# Altium integrated library Linear Technology Power Management Battery Management.IntLib: 626 symbols (part 28 of 56)
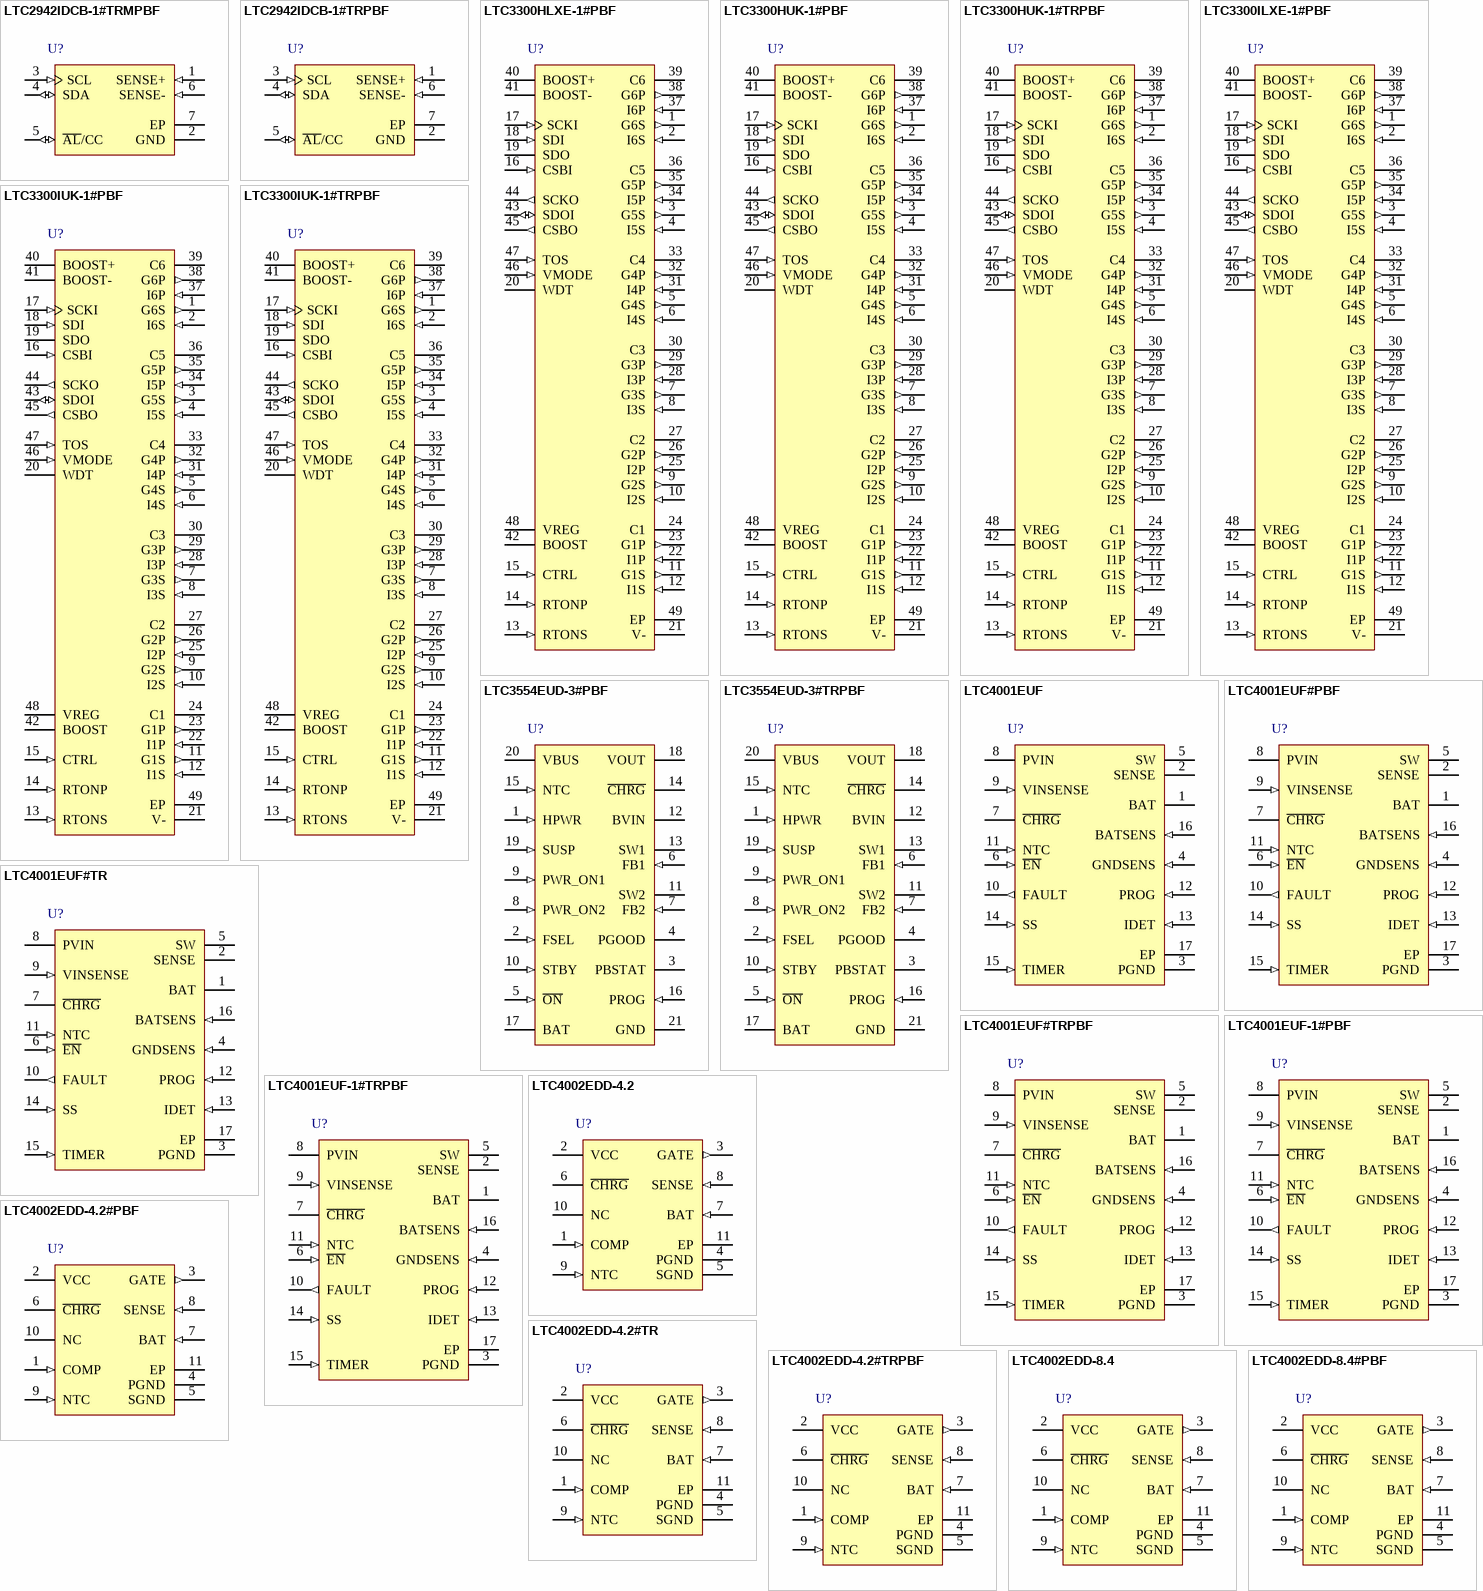
[diagram p49: symbols LTC2942IDCB-1#TRMPBF to LTC4002EDD-8.4#PBF]

## LTC3300IUK-1#PBF
designator U?
High Efficiency Bidirectional Multicell Battery Balancer, 48-pin QFN (UK-48), -40 to 125 degC, Pb-Free; Manufacturer: Linear Technology; PartNumber: LTC3300IUK-1#PBF; Battery Chemistry: Li-Ion, LiFePO4; Number of Cells: > 1000 V of stacked Li-Ion cells; DatasheetVersion: Rev. A; PackageVersion: Rev. C, 06/2010; PackageReference: UK-48; PackageDescription: 48-Pin Plastic QFN, Body 7 x 7 mm, Pitch 0.5 mm; Supplier 1: Digi-Key; Supplier Part Number 1: LTC3300IUK-1#PBF-ND; Supplier 2: Farnell; Supplier Part Number 2: 2313445; Supplier 3: Newark; Supplier Part Number 3: 71W8464; RoHS: TRUE; Mounting Technology: Surface Mount; Code_JEDEC: MO-220; ComponentLink1Description: Manufacturer URL; ComponentLink1URL: http://www.linear.com/; ComponentLink2Description: Datasheet; ComponentLink2URL: http://cds.linear.com/docs/en/datasheet/33001fa.pdf; ComponentLink3Description: Package Specification; ComponentLink3URL: http://cds.linear.com/docs/en/packaging/QFN_48_05-08-1704.pdf
footprint LT-UK-48_N (QFN, 48-Leads, Body 7.1x7.1mm, Pitch 0.5mm, Thermal Pad 5.15x5.15mm, IPC Medium Density)
footprint LT-UK-48_L (QFN, 48-Leads, Body 7.1x7.1mm, Pitch 0.5mm, Thermal Pad 5.15x5.15mm, IPC High Density)
footprint LT-UK-48_M (QFN, 48-Leads, Body 7.1x7.1mm, Pitch 0.5mm, Thermal Pad 5.15x5.15mm, IPC Low Density)
pins: 1 G6S (out) "G1S through G6S are gate driver outputs for driving external NMOS transistors connected in series with the secondary windings of transformers whose primaries are connected in parallel with battery cells 1 through 6. For the (See Datasheet)", 2 I6S (in) "I1S through I6S are current sense inputs for measuring secondary winding current in transformers whose primaries are connected in parallel with battery cells 1 through 6. For the minimum part count balancing application (See Datasheet)", 3 G5S (out) "G1S through G6S are gate driver outputs for driving external NMOS transistors connected in series with the secondary windings of transformers whose primaries are connected in parallel with battery cells 1 through 6. For the (See Datasheet)", 4 I5S (in) "I1S through I6S are current sense inputs for measuring secondary winding current in transformers whose primaries are connected in parallel with battery cells 1 through 6. For the minimum part count balancing application (See Datasheet)", 5 G4S (out) "G1S through G6S are gate driver outputs for driving external NMOS transistors connected in series with the secondary windings of transformers whose primaries are connected in parallel with battery cells 1 through 6. For the (See Datasheet)", 6 I4S (in) "I1S through I6S are current sense inputs for measuring secondary winding current in transformers whose primaries are connected in parallel with battery cells 1 through 6. For the minimum part count balancing application (See Datasheet)", 7 G3S (out) "G1S through G6S are gate driver outputs for driving external NMOS transistors connected in series with the secondary windings of transformers whose primaries are connected in parallel with battery cells 1 through 6. For the (See Datasheet)", 8 I3S (in) "I1S through I6S are current sense inputs for measuring secondary winding current in transformers whose primaries are connected in parallel with battery cells 1 through 6. For the minimum part count balancing application (See Datasheet)", 9 G2S (out) "G1S through G6S are gate driver outputs for driving external NMOS transistors connected in series with the secondary windings of transformers whose primaries are connected in parallel with battery cells 1 through 6. For the (See Datasheet)", 10 I2S (in) "I1S through I6S are current sense inputs for measuring secondary winding current in transformers whose primaries are connected in parallel with battery cells 1 through 6. For the minimum part count balancing application (See Datasheet)", 11 G1S (out) "G1S through G6S are gate driver outputs for driving external NMOS transistors connected in series with the secondary windings of transformers whose primaries are connected in parallel with battery cells 1 through 6. For the (See Datasheet)", 12 I1S (in) "I1S through I6S are current sense inputs for measuring secondary winding current in transformers whose primaries are connected in parallel with battery cells 1 through 6. For the minimum part count balancing application (See Datasheet)", 13 RTONS (in) "Secondary Winding Max tON Setting Resistor. The RTONS pin servos to 1.2V. A resistor to V- programs the maximum on-time for all external NMOS transistors connected in series with secondary windings. This protects against a (See Datasheet)", 14 RTONP (in) "Primary Winding Max tON Setting Resistor. The RTONP pin servos to 1.2V. A resistor to V- programs the maximum on-time for all external NMOS transistors connected in series with primary windings. This protects against a (See Datasheet)", 15 CTRL (in) "Control Input. The CTRL pin configures the LTC3300-1 for the minimum part count application employing a single transformer if CTRL is tied to VREG or for the multiple transformer application if CTRL is tied to V-. This pin (See Datasheet)", 16 CSBI (in) "Chip Select (Active Low) Input. The CSBI pin interfaces to a rail-to-rail output logic gate if VMODE is tied to VREG. CSBI must be driven by the CSBO pin of another LTC3300-1 if VMODE is tied to V-. See Serial Port in the (See Datasheet)", 17 SCKI (in) "Serial Clock Input. The SCKI pin interfaces to a rail-to-rail output logic gate if VMODE is tied to VREG. SCKI must be driven by the SCKO pin of another LTC3300-1 if VMODE is tied to V-. See Serial Port in the Applications (See Datasheet)", 18 SDI (in) "Serial Data Input. When writing data to the LTC3300-1, the SDI pin interfaces to a rail-to-rail output logic gate if VMODE is tied to VREG or must be driven by the SDOI pin of another LTC3300-1 if VMODE is tied to V-. See (See Datasheet)", 19 SDO (oc) "Serial Data Output. When reading data from the LTC3300-1, the SDO pin is an NMOS open-drain output if VMODE is tied to VREG. The SDO pin is not used if VMODE is tied to V-. See Serial Port in the Applications Information (See Datasheet)", 20 WDT (hiz) "Watchdog Timer Output (Active High). At initial power-up and when not attempting to execute a valid balance command, the WDT pin is high impedance and will be pulled high (internally clamped to ~5.6V) if an external pull-up (See Datasheet)", 21 V- (power) "Connect V- to the most negative potential in the series of cells.", 22 I1P (in) "I1P through I6P are current sense inputs for measuring primary winding current in transformers connected in parallel with battery cells 1 through 6.", 23 G1P (out) "G1P through G6P are gate driver outputs for driving external NMOS transistors connected in series with the primary windings of transformers connected in parallel with battery cells 1 through 6.", 24 C1 "C1 through C6 connect to the positive terminals of battery cells 1 through 6. Connect the negative terminal of battery cell 1 to V-.", 25 I2P (in) "I1P through I6P are current sense inputs for measuring primary winding current in transformers connected in parallel with battery cells 1 through 6.", 26 G2P (out) "G1P through G6P are gate driver outputs for driving external NMOS transistors connected in series with the primary windings of transformers connected in parallel with battery cells 1 through 6.", 27 C2 "C1 through C6 connect to the positive terminals of battery cells 1 through 6. Connect the negative terminal of battery cell 1 to V-.", 28 I3P (in) "I1P through I6P are current sense inputs for measuring primary winding current in transformers connected in parallel with battery cells 1 through 6.", 29 G3P (out) "G1P through G6P are gate driver outputs for driving external NMOS transistors connected in series with the primary windings of transformers connected in parallel with battery cells 1 through 6.", 30 C3 "C1 through C6 connect to the positive terminals of battery cells 1 through 6. Connect the negative terminal of battery cell 1 to V-.", 31 I4P (in) "I1P through I6P are current sense inputs for measuring primary winding current in transformers connected in parallel with battery cells 1 through 6.", 32 G4P (out) "G1P through G6P are gate driver outputs for driving external NMOS transistors connected in series with the primary windings of transformers connected in parallel with battery cells 1 through 6.", 33 C4 "C1 through C6 connect to the positive terminals of battery cells 1 through 6. Connect the negative terminal of battery cell 1 to V-.", 34 I5P (in) "I1P through I6P are current sense inputs for measuring primary winding current in transformers connected in parallel with battery cells 1 through 6.", 35 G5P (out) "G1P through G6P are gate driver outputs for driving external NMOS transistors connected in series with the primary windings of transformers connected in parallel with battery cells 1 through 6.", 36 C5 "C1 through C6 connect to the positive terminals of battery cells 1 through 6. Connect the negative terminal of battery cell 1 to V-.", 37 I6P (in) "I1P through I6P are current sense inputs for measuring primary winding current in transformers connected in parallel with battery cells 1 through 6.", 38 G6P (out) "G1P through G6P are gate driver outputs for driving external NMOS transistors connected in series with the primary windings of transformers connected in parallel with battery cells 1 through 6.", 39 C6 "C1 through C6 connect to the positive terminals of battery cells 1 through 6. Connect the negative terminal of battery cell 1 to V-.", 40 BOOST+ "Boost+ Pin. Connects to the anode of the external flying capacitor used for generating sufficient gate drive necessary for balancing the topmost battery cell in a given LTC3300-1 sub-stack. A Schottky diode from C6 to BOOST+ (See Datasheet)", 41 BOOST- "Boost- Pin. Connects to the cathode of the external flying capacitor used for generating sufficient gate drive necessary for balancing the topmost battery cell in a given LTC3300-1 sub-stack. Alternately, if the BOOST+ pin (See Datasheet)", 42 BOOST "Enable Boost Pin. Connect BOOST to VREG to enable the boosted gate drive needed for balancing the top cell in a given LTC3300-1 sub-stack. If the BOOST+ pin can be connected to the next cell up in the stack (i.e., C1 of the (See Datasheet)", 43 SDOI (io) "Serial Data Output/Input. SDOI transfers data to and from the next IC higher in the daisy chain when writing and reading. See Serial Port in the Applications Information section.", 44 SCKO (out) "Serial Clock Output. SCKO is a buffered and one-shotted version of the serial clock input, SCKI, when CSBI is low. SCKO drives the next IC higher in the daisy chain. See Serial Port in the Applications Information section.", 45 CSBO (out) "Chip Select (Active Low) Output. CSBO is a buffered version of the chip select input, CSBI. CSBO drives the next IC higher in the daisy chain. See Serial Port in the Applications Information section.", 46 VMODE (in) "Voltage Mode Input. When VMODE is tied to VREG, the CSBI, SCKI, SDI and SDO pins are configured as voltage inputs and outputs. This means these pins accept VREG-referred rail-to-rail logic levels. Connect VMODE to VREG when (See Datasheet)", 47 TOS (in) "Top Of Stack Input. Tie TOS to VREG when the LTC3300-1 is the top device in a daisy chain. Tie TOS to V- when the LTC3300-1 is any other device in the daisy chain. When TOS is tied to VREG, the LTC3300-1 ignores the SDOI (See Datasheet)", 48 VREG (power) "Linear Voltage Regulator Output. This 4.8V output should be bypassed with a 1uF or larger capacitor to V-. The VREG pin is capable of supplying up to 40mA to internal and external loads. The VREG pin does not sink current.", 49 EP (power) "The exposed pad should be connected to a continuous (ground) plane biased at V- on the second layer of the printed circuit board by several vias directly under the LTC3300-1."

## LTC3300IUK-1#TRPBF
designator U?
High Efficiency Bidirectional Multicell Battery Balancer, 48-pin QFN (UK-48), -40 to 125 degC, Pb-Free, Tape and Reel; Manufacturer: Linear Technology; PartNumber: LTC3300IUK-1#TRPBF; Battery Chemistry: Li-Ion, LiFePO4; Number of Cells: > 1000 V of stacked Li-Ion cells; DatasheetVersion: Rev. A; PackageVersion: Rev. C, 06/2010; PackageReference: UK-48; PackageDescription: 48-Pin Plastic QFN, Body 7 x 7 mm, Pitch 0.5 mm; Supplier 1: Digi-Key; Supplier Part Number 1: LTC3300IUK-1#TRPBF-ND; Supplier 2: Newark; Supplier Part Number 2: 71W8465; Packing: Tape and Reel; RoHS: TRUE; Mounting Technology: Surface Mount; Code_JEDEC: MO-220; ComponentLink1Description: Manufacturer URL; ComponentLink1URL: http://www.linear.com/; ComponentLink2Description: Datasheet; ComponentLink2URL: http://cds.linear.com/docs/en/datasheet/33001fa.pdf; ComponentLink3Description: Package Specification; ComponentLink3URL: http://cds.linear.com/docs/en/packaging/QFN_48_05-08-1704.pdf
footprint LT-UK-48_N (QFN, 48-Leads, Body 7.1x7.1mm, Pitch 0.5mm, Thermal Pad 5.15x5.15mm, IPC Medium Density)
footprint LT-UK-48_L (QFN, 48-Leads, Body 7.1x7.1mm, Pitch 0.5mm, Thermal Pad 5.15x5.15mm, IPC High Density)
footprint LT-UK-48_M (QFN, 48-Leads, Body 7.1x7.1mm, Pitch 0.5mm, Thermal Pad 5.15x5.15mm, IPC Low Density)
pins: 1 G6S (out) "G1S through G6S are gate driver outputs for driving external NMOS transistors connected in series with the secondary windings of transformers whose primaries are connected in parallel with battery cells 1 through 6. For the (See Datasheet)", 2 I6S (in) "I1S through I6S are current sense inputs for measuring secondary winding current in transformers whose primaries are connected in parallel with battery cells 1 through 6. For the minimum part count balancing application (See Datasheet)", 3 G5S (out) "G1S through G6S are gate driver outputs for driving external NMOS transistors connected in series with the secondary windings of transformers whose primaries are connected in parallel with battery cells 1 through 6. For the (See Datasheet)", 4 I5S (in) "I1S through I6S are current sense inputs for measuring secondary winding current in transformers whose primaries are connected in parallel with battery cells 1 through 6. For the minimum part count balancing application (See Datasheet)", 5 G4S (out) "G1S through G6S are gate driver outputs for driving external NMOS transistors connected in series with the secondary windings of transformers whose primaries are connected in parallel with battery cells 1 through 6. For the (See Datasheet)", 6 I4S (in) "I1S through I6S are current sense inputs for measuring secondary winding current in transformers whose primaries are connected in parallel with battery cells 1 through 6. For the minimum part count balancing application (See Datasheet)", 7 G3S (out) "G1S through G6S are gate driver outputs for driving external NMOS transistors connected in series with the secondary windings of transformers whose primaries are connected in parallel with battery cells 1 through 6. For the (See Datasheet)", 8 I3S (in) "I1S through I6S are current sense inputs for measuring secondary winding current in transformers whose primaries are connected in parallel with battery cells 1 through 6. For the minimum part count balancing application (See Datasheet)", 9 G2S (out) "G1S through G6S are gate driver outputs for driving external NMOS transistors connected in series with the secondary windings of transformers whose primaries are connected in parallel with battery cells 1 through 6. For the (See Datasheet)", 10 I2S (in) "I1S through I6S are current sense inputs for measuring secondary winding current in transformers whose primaries are connected in parallel with battery cells 1 through 6. For the minimum part count balancing application (See Datasheet)", 11 G1S (out) "G1S through G6S are gate driver outputs for driving external NMOS transistors connected in series with the secondary windings of transformers whose primaries are connected in parallel with battery cells 1 through 6. For the (See Datasheet)", 12 I1S (in) "I1S through I6S are current sense inputs for measuring secondary winding current in transformers whose primaries are connected in parallel with battery cells 1 through 6. For the minimum part count balancing application (See Datasheet)", 13 RTONS (in) "Secondary Winding Max tON Setting Resistor. The RTONS pin servos to 1.2V. A resistor to V- programs the maximum on-time for all external NMOS transistors connected in series with secondary windings. This protects against a (See Datasheet)", 14 RTONP (in) "Primary Winding Max tON Setting Resistor. The RTONP pin servos to 1.2V. A resistor to V- programs the maximum on-time for all external NMOS transistors connected in series with primary windings. This protects against a (See Datasheet)", 15 CTRL (in) "Control Input. The CTRL pin configures the LTC3300-1 for the minimum part count application employing a single transformer if CTRL is tied to VREG or for the multiple transformer application if CTRL is tied to V-. This pin (See Datasheet)", 16 CSBI (in) "Chip Select (Active Low) Input. The CSBI pin interfaces to a rail-to-rail output logic gate if VMODE is tied to VREG. CSBI must be driven by the CSBO pin of another LTC3300-1 if VMODE is tied to V-. See Serial Port in the (See Datasheet)", 17 SCKI (in) "Serial Clock Input. The SCKI pin interfaces to a rail-to-rail output logic gate if VMODE is tied to VREG. SCKI must be driven by the SCKO pin of another LTC3300-1 if VMODE is tied to V-. See Serial Port in the Applications (See Datasheet)", 18 SDI (in) "Serial Data Input. When writing data to the LTC3300-1, the SDI pin interfaces to a rail-to-rail output logic gate if VMODE is tied to VREG or must be driven by the SDOI pin of another LTC3300-1 if VMODE is tied to V-. See (See Datasheet)", 19 SDO (oc) "Serial Data Output. When reading data from the LTC3300-1, the SDO pin is an NMOS open-drain output if VMODE is tied to VREG. The SDO pin is not used if VMODE is tied to V-. See Serial Port in the Applications Information (See Datasheet)", 20 WDT (hiz) "Watchdog Timer Output (Active High). At initial power-up and when not attempting to execute a valid balance command, the WDT pin is high impedance and will be pulled high (internally clamped to ~5.6V) if an external pull-up (See Datasheet)", 21 V- (power) "Connect V- to the most negative potential in the series of cells.", 22 I1P (in) "I1P through I6P are current sense inputs for measuring primary winding current in transformers connected in parallel with battery cells 1 through 6.", 23 G1P (out) "G1P through G6P are gate driver outputs for driving external NMOS transistors connected in series with the primary windings of transformers connected in parallel with battery cells 1 through 6.", 24 C1 "C1 through C6 connect to the positive terminals of battery cells 1 through 6. Connect the negative terminal of battery cell 1 to V-.", 25 I2P (in) "I1P through I6P are current sense inputs for measuring primary winding current in transformers connected in parallel with battery cells 1 through 6.", 26 G2P (out) "G1P through G6P are gate driver outputs for driving external NMOS transistors connected in series with the primary windings of transformers connected in parallel with battery cells 1 through 6.", 27 C2 "C1 through C6 connect to the positive terminals of battery cells 1 through 6. Connect the negative terminal of battery cell 1 to V-.", 28 I3P (in) "I1P through I6P are current sense inputs for measuring primary winding current in transformers connected in parallel with battery cells 1 through 6.", 29 G3P (out) "G1P through G6P are gate driver outputs for driving external NMOS transistors connected in series with the primary windings of transformers connected in parallel with battery cells 1 through 6.", 30 C3 "C1 through C6 connect to the positive terminals of battery cells 1 through 6. Connect the negative terminal of battery cell 1 to V-.", 31 I4P (in) "I1P through I6P are current sense inputs for measuring primary winding current in transformers connected in parallel with battery cells 1 through 6.", 32 G4P (out) "G1P through G6P are gate driver outputs for driving external NMOS transistors connected in series with the primary windings of transformers connected in parallel with battery cells 1 through 6.", 33 C4 "C1 through C6 connect to the positive terminals of battery cells 1 through 6. Connect the negative terminal of battery cell 1 to V-.", 34 I5P (in) "I1P through I6P are current sense inputs for measuring primary winding current in transformers connected in parallel with battery cells 1 through 6.", 35 G5P (out) "G1P through G6P are gate driver outputs for driving external NMOS transistors connected in series with the primary windings of transformers connected in parallel with battery cells 1 through 6.", 36 C5 "C1 through C6 connect to the positive terminals of battery cells 1 through 6. Connect the negative terminal of battery cell 1 to V-.", 37 I6P (in) "I1P through I6P are current sense inputs for measuring primary winding current in transformers connected in parallel with battery cells 1 through 6.", 38 G6P (out) "G1P through G6P are gate driver outputs for driving external NMOS transistors connected in series with the primary windings of transformers connected in parallel with battery cells 1 through 6.", 39 C6 "C1 through C6 connect to the positive terminals of battery cells 1 through 6. Connect the negative terminal of battery cell 1 to V-.", 40 BOOST+ "Boost+ Pin. Connects to the anode of the external flying capacitor used for generating sufficient gate drive necessary for balancing the topmost battery cell in a given LTC3300-1 sub-stack. A Schottky diode from C6 to BOOST+ (See Datasheet)", 41 BOOST- "Boost- Pin. Connects to the cathode of the external flying capacitor used for generating sufficient gate drive necessary for balancing the topmost battery cell in a given LTC3300-1 sub-stack. Alternately, if the BOOST+ pin (See Datasheet)", 42 BOOST "Enable Boost Pin. Connect BOOST to VREG to enable the boosted gate drive needed for balancing the top cell in a given LTC3300-1 sub-stack. If the BOOST+ pin can be connected to the next cell up in the stack (i.e., C1 of the (See Datasheet)", 43 SDOI (io) "Serial Data Output/Input. SDOI transfers data to and from the next IC higher in the daisy chain when writing and reading. See Serial Port in the Applications Information section.", 44 SCKO (out) "Serial Clock Output. SCKO is a buffered and one-shotted version of the serial clock input, SCKI, when CSBI is low. SCKO drives the next IC higher in the daisy chain. See Serial Port in the Applications Information section.", 45 CSBO (out) "Chip Select (Active Low) Output. CSBO is a buffered version of the chip select input, CSBI. CSBO drives the next IC higher in the daisy chain. See Serial Port in the Applications Information section.", 46 VMODE (in) "Voltage Mode Input. When VMODE is tied to VREG, the CSBI, SCKI, SDI and SDO pins are configured as voltage inputs and outputs. This means these pins accept VREG-referred rail-to-rail logic levels. Connect VMODE to VREG when (See Datasheet)", 47 TOS (in) "Top Of Stack Input. Tie TOS to VREG when the LTC3300-1 is the top device in a daisy chain. Tie TOS to V- when the LTC3300-1 is any other device in the daisy chain. When TOS is tied to VREG, the LTC3300-1 ignores the SDOI (See Datasheet)", 48 VREG (power) "Linear Voltage Regulator Output. This 4.8V output should be bypassed with a 1uF or larger capacitor to V-. The VREG pin is capable of supplying up to 40mA to internal and external loads. The VREG pin does not sink current.", 49 EP (power) "The exposed pad should be connected to a continuous (ground) plane biased at V- on the second layer of the printed circuit board by several vias directly under the LTC3300-1."

## LTC3554EUD-3#PBF
designator U?
Micropower USB Power Manager with Li-Ion Charger and Two Step-Down Regulators, 4.35 to 5.5 V Vin, 20-pin QFN (UD-20), -40 to 85 degC, Pb-Free; Manufacturer: Linear Technology; PartNumber: LTC3554EUD-3#PBF; Battery Chemistry: Li-Ion, Li-Polymer; Buck: 200 mA, 200 mA; Float Voltage: 4.2 V; Max Charge Current(A): 0.4; Number of Cells: 1; Type of Charger: Linear; Vin Max(V): 5.5; Vin Min(V): 4.35; DatasheetVersion: Rev. E; PackageVersion: Rev. A, 06/2010; PackageReference: UD-20; PackageDescription: 20-Pin Plastic QFN, Body 3 x 3 mm, Pitch 0.4 mm; Supplier 1: Digi-Key; Supplier Part Number 1: LTC3554EUD-3#PBF-ND; Supplier 2: Newark; Supplier Part Number 2: 44W6805; RoHS: TRUE; Mounting Technology: Surface Mount; ComponentLink1Description: Manufacturer URL; ComponentLink1URL: http://www.linear.com/; ComponentLink2Description: Datasheet; ComponentLink2URL: http://cds.linear.com/docs/en/datasheet/355412fe.pdf; ComponentLink3Description: Package Specification; ComponentLink3URL: http://cds.linear.com/docs/en/packaging/QFN_20_05-08-1720.pdf
footprint LT-UD-20_N (QFN, 20-Leads, Body 3.1x3.1mm, Pitch 0.4mm, Thermal Pad 1.65x1.65mm, IPC Medium Density)
footprint LT-UD-20_L (QFN, 20-Leads, Body 3.1x3.1mm, Pitch 0.4mm, Thermal Pad 1.65x1.65mm, IPC High Density)
footprint LT-UD-20_M (QFN, 20-Leads, Body 3.1x3.1mm, Pitch 0.4mm, Thermal Pad 1.65x1.65mm, IPC Low Density)
pins: 1 HPWR (in) "High Power Logic Input. When this pin is low the input current limit is set to 100mA and when this pin is driven high it is set to 500mA. The SUSP pin needs to be low for the input current limit circuit to be enabled. This (See Datasheet)", 2 FSEL (in) "Buck Frequency Select. When this pin is low the buck switching frequency is set to 1.125MHz and when this pin is driven high it is set to 2.25MHz.", 3 PBSTAT (hiz) "Pushbutton Status. This open-drain output is a debounced and buffered version of the O\N\ pushbutton input. It may be used to interrupt a microprocessor.", 4 PGOOD (hiz) "Power Good. This open-drain output indicates that all enabled buck regulators have been in regulation for at least 230ms.", 5 ~{ON} (in) "Pushbutton Input. Weak internal pull-up forces a high state if O\N\ is left floating. A normally open pushbutton is connected from O\N\ to ground to force a low state on this pin.", 6 FB1 (in) "Feedback Input for Step-Down Switching Regulator 1. This pin servos to a fixed voltage of 0.8V when the control loop is complete.", 7 FB2 (in) "Feedback Input for Step-Down Switching Regulator 2. This pin servos to a fixed voltage of 0.8V when the control loop is complete.", 8 PWR_ON2 (in) "Logic Input Enables Step-Down Switching Regulator 2.", 9 PWR_ON1 (in) "Logic Input Enables Step-Down Switching Regulator 1.", 10 STBY (in) "Standby Mode. When this pin is driven high the part enters a very low quiescent current mode. The buck regulators are each limited to 5mA maximum load current in this mode.", 11 SW2 (power) "Power Transmission (Switch) Pin for Step-Down Switching Regulator 2.", 12 BVIN (power) "Power Input for Step-Down Switching Regulators 1 and 2. It is recommended that this pin be connected to the VOUT pin. It should be bypassed with a low impedance multilayer ceramic capacitor.", 13 SW1 (power) "Power Transmission (Switch) Pin for Step-Down Switching Regulator 1.", 14 ~{CHRG} (hiz) "Open-Drain Charge Status Output. This pin indicates the status of the battery charger. It is internally pulled low while charging. Once the battery charge current reduces to less than one-tenth of the programmed charge (See Datasheet)", 15 NTC (in) "The NTC pin connects to a battery’s thermistor to determine if the battery is too hot or too cold to charge. If the battery’s temperature is out of range, charging is paused until it drops back into range. A low dr(See Datasheet)", 16 PROG (in) "Charge Current Program and Charge Current Monitor Pin. Connecting a resistor from PROG to ground programs the charge current as given by:ICHG (A)=750V/RPROG.If sufficient input power is available in constant-current mode, (See Datasheet)", 17 BAT (power) "Single-Cell Li-Ion Battery Pin. Depending on available power and load, a Li-Ion battery on BAT will either deliver system power to VOUT through the ideal diode or be charged from the battery charger.", 18 VOUT (power) "Output Voltage of the PowerPath Controller and Input Voltage of the Battery Charger. The majority of the portable products should be powered from VOUT.", 19 SUSP (in) "Suspend Mode Logic Input. If this pin is driven high the input current limit path is disabled. In this state the circuit draws negligible power from the VBUS pin. Any load at the VOUT pin is provided by the battery through (See Datasheet)", 20 VBUS (power) "USB Input Voltage. VBUS will usually be connected to the USB port of a computer or a DC output wall adapter. VBUS should be bypassed with a low impedance multilayer ceramic capacitor.", 21 GND (power) "Ground. The exposed package pad is ground and must be soldered to the PC board for proper functionality and for maximum heat transfer."

## LTC3554EUD-3#TRPBF
designator U?
Micropower USB Power Manager with Li-Ion Charger and Two Step-Down Regulators, 4.35 to 5.5 V Vin, 20-pin QFN (UD-20), -40 to 85 degC, Pb-Free, Tape and Reel; Manufacturer: Linear Technology; PartNumber: LTC3554EUD-3#TRPBF; Battery Chemistry: Li-Ion, Li-Polymer; Buck: 200 mA, 200 mA; Float Voltage: 4.2 V; Max Charge Current(A): 0.4; Number of Cells: 1; Type of Charger: Linear; Vin Max(V): 5.5; Vin Min(V): 4.35; DatasheetVersion: Rev. E; PackageVersion: Rev. A, 06/2010; PackageReference: UD-20; PackageDescription: 20-Pin Plastic QFN, Body 3 x 3 mm, Pitch 0.4 mm; Supplier 1: Digi-Key; Supplier Part Number 1: LTC3554EUD-3#TRPBF-ND; Supplier 2: Newark; Supplier Part Number 2: 44W6806; Packing: Tape and Reel; RoHS: TRUE; Mounting Technology: Surface Mount; ComponentLink1Description: Manufacturer URL; ComponentLink1URL: http://www.linear.com/; ComponentLink2Description: Datasheet; ComponentLink2URL: http://cds.linear.com/docs/en/datasheet/355412fe.pdf; ComponentLink3Description: Package Specification; ComponentLink3URL: http://cds.linear.com/docs/en/packaging/QFN_20_05-08-1720.pdf
footprint LT-UD-20_N (QFN, 20-Leads, Body 3.1x3.1mm, Pitch 0.4mm, Thermal Pad 1.65x1.65mm, IPC Medium Density)
footprint LT-UD-20_L (QFN, 20-Leads, Body 3.1x3.1mm, Pitch 0.4mm, Thermal Pad 1.65x1.65mm, IPC High Density)
footprint LT-UD-20_M (QFN, 20-Leads, Body 3.1x3.1mm, Pitch 0.4mm, Thermal Pad 1.65x1.65mm, IPC Low Density)
pins: 1 HPWR (in) "High Power Logic Input. When this pin is low the input current limit is set to 100mA and when this pin is driven high it is set to 500mA. The SUSP pin needs to be low for the input current limit circuit to be enabled. This (See Datasheet)", 2 FSEL (in) "Buck Frequency Select. When this pin is low the buck switching frequency is set to 1.125MHz and when this pin is driven high it is set to 2.25MHz.", 3 PBSTAT (hiz) "Pushbutton Status. This open-drain output is a debounced and buffered version of the O\N\ pushbutton input. It may be used to interrupt a microprocessor.", 4 PGOOD (hiz) "Power Good. This open-drain output indicates that all enabled buck regulators have been in regulation for at least 230ms.", 5 ~{ON} (in) "Pushbutton Input. Weak internal pull-up forces a high state if O\N\ is left floating. A normally open pushbutton is connected from O\N\ to ground to force a low state on this pin.", 6 FB1 (in) "Feedback Input for Step-Down Switching Regulator 1. This pin servos to a fixed voltage of 0.8V when the control loop is complete.", 7 FB2 (in) "Feedback Input for Step-Down Switching Regulator 2. This pin servos to a fixed voltage of 0.8V when the control loop is complete.", 8 PWR_ON2 (in) "Logic Input Enables Step-Down Switching Regulator 2.", 9 PWR_ON1 (in) "Logic Input Enables Step-Down Switching Regulator 1.", 10 STBY (in) "Standby Mode. When this pin is driven high the part enters a very low quiescent current mode. The buck regulators are each limited to 5mA maximum load current in this mode.", 11 SW2 (power) "Power Transmission (Switch) Pin for Step-Down Switching Regulator 2.", 12 BVIN (power) "Power Input for Step-Down Switching Regulators 1 and 2. It is recommended that this pin be connected to the VOUT pin. It should be bypassed with a low impedance multilayer ceramic capacitor.", 13 SW1 (power) "Power Transmission (Switch) Pin for Step-Down Switching Regulator 1.", 14 ~{CHRG} (hiz) "Open-Drain Charge Status Output. This pin indicates the status of the battery charger. It is internally pulled low while charging. Once the battery charge current reduces to less than one-tenth of the programmed charge (See Datasheet)", 15 NTC (in) "The NTC pin connects to a battery’s thermistor to determine if the battery is too hot or too cold to charge. If the battery’s temperature is out of range, charging is paused until it drops back into range. A low dr(See Datasheet)", 16 PROG (in) "Charge Current Program and Charge Current Monitor Pin. Connecting a resistor from PROG to ground programs the charge current as given by:ICHG (A)=750V/RPROG.If sufficient input power is available in constant-current mode, (See Datasheet)", 17 BAT (power) "Single-Cell Li-Ion Battery Pin. Depending on available power and load, a Li-Ion battery on BAT will either deliver system power to VOUT through the ideal diode or be charged from the battery charger.", 18 VOUT (power) "Output Voltage of the PowerPath Controller and Input Voltage of the Battery Charger. The majority of the portable products should be powered from VOUT.", 19 SUSP (in) "Suspend Mode Logic Input. If this pin is driven high the input current limit path is disabled. In this state the circuit draws negligible power from the VBUS pin. Any load at the VOUT pin is provided by the battery through (See Datasheet)", 20 VBUS (power) "USB Input Voltage. VBUS will usually be connected to the USB port of a computer or a DC output wall adapter. VBUS should be bypassed with a low impedance multilayer ceramic capacitor.", 21 GND (power) "Ground. The exposed package pad is ground and must be soldered to the PC board for proper functionality and for maximum heat transfer."

## LTC4001EUF
designator U?
2 A Synchronous Buck Li-Ion Charger, 4 to 5.5 V Vin, 16-pin QFN (UF-16), -40 to 85 degC; Manufacturer: Linear Technology; PartNumber: LTC4001EUF; Battery Chemistry: Li-Ion, Li-Polymer; Charge Termination: Timer; Float Voltage: 4.2 V; Max Charge Current(A): 2; Number of Cells: 1; Type of Charger: Switching; Vin Max(V): 5.5; Vin Min(V): 4; PackageVersion: Jun-10; PackageReference: UF-16; PackageDescription: 16-Pin Plastic QFN, Body 4 x 4 mm, Pitch 0.65 mm; RoHS: FALSE; Mounting Technology: Surface Mount; Code_JEDEC: MO-220; ComponentLink1Description: Manufacturer URL; ComponentLink1URL: http://www.linear.com/; ComponentLink2Description: Datasheet; ComponentLink2URL: http://cds.linear.com/docs/en/datasheet/4001f.pdf; ComponentLink3Description: Package Specification; ComponentLink3URL: http://cds.linear.com/docs/en/packaging/QFN_16_05-08-1692.pdf
footprint LT-UF-16_N (QFN, 16-Leads, Body 4.1x4.1mm, Pitch 0.65mm, Thermal Pad 2.15x2.15mm, IPC Medium Density)
footprint LT-UF-16_L (QFN, 16-Leads, Body 4.1x4.1mm, Pitch 0.65mm, Thermal Pad 2.15x2.15mm, IPC High Density)
footprint LT-UF-16_M (QFN, 16-Leads, Body 4.1x4.1mm, Pitch 0.65mm, Thermal Pad 2.15x2.15mm, IPC Low Density)
pins: 1 BAT (power) "Battery Charger Output Terminal. Connect a 10uF ceramic chip capacitor between BAT and PGND to keep the ripple voltage small.", 2 SENSE "Internal Sense Resistor. Connect to external inductor.", 3 PGND (power) "Power Ground", 4 GNDSENS (in) "Ground Sense. Connect this pin to the negative battery terminal. GNDSENS provides a Kelvin connection for PGND and must be connected to PGND schematically.", 5 SW "Switch Node Connection. This pin connects to the drains of the internal main and synchronous power MOSFET switches. Connect to external inductor.", 6 ~{EN} (in) "Enable Input Pin. Pulling the E\N\ pin high places the LTC4001/LTC4001-1 into a low power state where the BAT drain current drops to less than 3uA and the supply current is reduced to less than 50uA. For normal operation, (See Datasheet)", 7 ~{CHRG} (hiz) "Open-Drain Charge Status Output. When the battery is being charged, C\H\R\G\ is pulled low by an internal N-channel MOSFET. When the charge current drops below the IDET threshold (set by the RIDET programming resistor) for (See Datasheet)", 8 PVIN (power) "Positive Supply Voltage Input. This pin connects to the power devices inside the chip. VIN ranges from 4V to 5.5V for normal operation. Operation down to the undervoltage lockout threshold is allowed with current limited (See Datasheet)", 9 VINSENSE (in) "Positive Supply Sense Input. This pin connects to the inputs of all input comparators (UVL, VIN to VBAT). It also supplies power to the controller portion of this chip. When the BATSENS pin rises to within 30mV of VINSENSE, (See Datasheet)", 10 FAULT (out) "Battery Fault. This pin is a logic high if a shorted battery is detected or if a temperature fault is detected. A temperature fault occurs with the temperature monitor circuit enabled and the thermistor temperature is either (See Datasheet)", 11 NTC (in) "Input to the NTC (Negative Temperature Coefficient) Thermistor Temperature Monitoring Circuit. Under normal operation, tie a thermistor from the NTC pin to the GNDSENS pin and a resistor of equal value from NTC to VIN. When (See Datasheet)", 12 PROG (in) "Charge Current Program. The RPROG resistor connects from this pin to GNDSENS, setting the current: RPROG =1.110k/IBAT(AMPS) where IBAT is the high rate battery charging current", 13 IDET (in) "Charge Rate Detection Threshold. Connecting a resistor, RIDET to GNDSENS programs the charge rate detection threshold. If RIDET = RPROG, C\H\R\G\ provides an IBAT/10 indication. For other thresholds see the Applications (See Datasheet)", 14 SS (in) "Soft-Start/Compensation. Provides soft-start function and compensation for the float voltage control loop and compensation for the charge current control loop. Tie a soft-start/compensation capacitor between this pin and (See Datasheet)", 15 TIMER (in) "Timer Capacitor. The timer period is set by placing a capacitor, CTIMER, to GNDSENS. Set CTIMER to:CTIMER = Time (Hrs) x 0.0733 (uF) where time is the desired charging time. Connect this pin to IDET to disable the timer. (See Datasheet)", 16 BATSENS (in) "Battery Sense Input. An internal resistor divider sets the final float voltage at this pin. The resistor divider is disconnected in sleep mode or when E\N\ = H to reduce the battery drain current. Connect this pin to the (See Datasheet)", 17 EP (power) "Ground. This pin must be soldered to the PCB ground (PGND) for electrical contact and rated thermal performance."

## LTC4001EUF#PBF
designator U?
2 A Synchronous Buck Li-Ion Charger, 4 to 5.5 V Vin, 16-pin QFN (UF-16), -40 to 85 degC, Pb-Free; Manufacturer: Linear Technology; PartNumber: LTC4001EUF#PBF; Battery Chemistry: Li-Ion, Li-Polymer; Charge Termination: Timer; Float Voltage: 4.2 V; Max Charge Current(A): 2; Number of Cells: 1; Type of Charger: Switching; Vin Max(V): 5.5; Vin Min(V): 4; PackageVersion: Jun-10; PackageReference: UF-16; PackageDescription: 16-Pin Plastic QFN, Body 4 x 4 mm, Pitch 0.65 mm; Supplier 1: Digi-Key; Supplier Part Number 1: LTC4001EUF#PBF-ND; Supplier 2: Farnell; Supplier Part Number 2: 1556266; Supplier 3: Newark; Supplier Part Number 3: 56M8638; RoHS: TRUE; Mounting Technology: Surface Mount; Code_JEDEC: MO-220; ComponentLink1Description: Manufacturer URL; ComponentLink1URL: http://www.linear.com/; ComponentLink2Description: Datasheet; ComponentLink2URL: http://cds.linear.com/docs/en/datasheet/4001f.pdf; ComponentLink3Description: Package Specification; ComponentLink3URL: http://cds.linear.com/docs/en/packaging/QFN_16_05-08-1692.pdf
footprint LT-UF-16_N (QFN, 16-Leads, Body 4.1x4.1mm, Pitch 0.65mm, Thermal Pad 2.15x2.15mm, IPC Medium Density)
footprint LT-UF-16_L (QFN, 16-Leads, Body 4.1x4.1mm, Pitch 0.65mm, Thermal Pad 2.15x2.15mm, IPC High Density)
footprint LT-UF-16_M (QFN, 16-Leads, Body 4.1x4.1mm, Pitch 0.65mm, Thermal Pad 2.15x2.15mm, IPC Low Density)
pins: 1 BAT (power) "Battery Charger Output Terminal. Connect a 10uF ceramic chip capacitor between BAT and PGND to keep the ripple voltage small.", 2 SENSE "Internal Sense Resistor. Connect to external inductor.", 3 PGND (power) "Power Ground", 4 GNDSENS (in) "Ground Sense. Connect this pin to the negative battery terminal. GNDSENS provides a Kelvin connection for PGND and must be connected to PGND schematically.", 5 SW "Switch Node Connection. This pin connects to the drains of the internal main and synchronous power MOSFET switches. Connect to external inductor.", 6 ~{EN} (in) "Enable Input Pin. Pulling the E\N\ pin high places the LTC4001/LTC4001-1 into a low power state where the BAT drain current drops to less than 3uA and the supply current is reduced to less than 50uA. For normal operation, (See Datasheet)", 7 ~{CHRG} (hiz) "Open-Drain Charge Status Output. When the battery is being charged, C\H\R\G\ is pulled low by an internal N-channel MOSFET. When the charge current drops below the IDET threshold (set by the RIDET programming resistor) for (See Datasheet)", 8 PVIN (power) "Positive Supply Voltage Input. This pin connects to the power devices inside the chip. VIN ranges from 4V to 5.5V for normal operation. Operation down to the undervoltage lockout threshold is allowed with current limited (See Datasheet)", 9 VINSENSE (in) "Positive Supply Sense Input. This pin connects to the inputs of all input comparators (UVL, VIN to VBAT). It also supplies power to the controller portion of this chip. When the BATSENS pin rises to within 30mV of VINSENSE, (See Datasheet)", 10 FAULT (out) "Battery Fault. This pin is a logic high if a shorted battery is detected or if a temperature fault is detected. A temperature fault occurs with the temperature monitor circuit enabled and the thermistor temperature is either (See Datasheet)", 11 NTC (in) "Input to the NTC (Negative Temperature Coefficient) Thermistor Temperature Monitoring Circuit. Under normal operation, tie a thermistor from the NTC pin to the GNDSENS pin and a resistor of equal value from NTC to VIN. When (See Datasheet)", 12 PROG (in) "Charge Current Program. The RPROG resistor connects from this pin to GNDSENS, setting the current: RPROG =1.110k/IBAT(AMPS) where IBAT is the high rate battery charging current", 13 IDET (in) "Charge Rate Detection Threshold. Connecting a resistor, RIDET to GNDSENS programs the charge rate detection threshold. If RIDET = RPROG, C\H\R\G\ provides an IBAT/10 indication. For other thresholds see the Applications (See Datasheet)", 14 SS (in) "Soft-Start/Compensation. Provides soft-start function and compensation for the float voltage control loop and compensation for the charge current control loop. Tie a soft-start/compensation capacitor between this pin and (See Datasheet)", 15 TIMER (in) "Timer Capacitor. The timer period is set by placing a capacitor, CTIMER, to GNDSENS. Set CTIMER to:CTIMER = Time (Hrs) x 0.0733 (uF) where time is the desired charging time. Connect this pin to IDET to disable the timer. (See Datasheet)", 16 BATSENS (in) "Battery Sense Input. An internal resistor divider sets the final float voltage at this pin. The resistor divider is disconnected in sleep mode or when E\N\ = H to reduce the battery drain current. Connect this pin to the (See Datasheet)", 17 EP (power) "Ground. This pin must be soldered to the PCB ground (PGND) for electrical contact and rated thermal performance."

## LTC4001EUF#TR
designator U?
2 A Synchronous Buck Li-Ion Charger, 4 to 5.5 V Vin, 16-pin QFN (UF-16), -40 to 85 degC, Tape and Reel; Manufacturer: Linear Technology; PartNumber: LTC4001EUF#TR; Battery Chemistry: Li-Ion, Li-Polymer; Charge Termination: Timer; Float Voltage: 4.2 V; Max Charge Current(A): 2; Number of Cells: 1; Type of Charger: Switching; Vin Max(V): 5.5; Vin Min(V): 4; PackageVersion: Jun-10; PackageReference: UF-16; PackageDescription: 16-Pin Plastic QFN, Body 4 x 4 mm, Pitch 0.65 mm; Packing: Tape and Reel; RoHS: FALSE; Mounting Technology: Surface Mount; Code_JEDEC: MO-220; ComponentLink1Description: Manufacturer URL; ComponentLink1URL: http://www.linear.com/; ComponentLink2Description: Datasheet; ComponentLink2URL: http://cds.linear.com/docs/en/datasheet/4001f.pdf; ComponentLink3Description: Package Specification; ComponentLink3URL: http://cds.linear.com/docs/en/packaging/QFN_16_05-08-1692.pdf
footprint LT-UF-16_N (QFN, 16-Leads, Body 4.1x4.1mm, Pitch 0.65mm, Thermal Pad 2.15x2.15mm, IPC Medium Density)
footprint LT-UF-16_L (QFN, 16-Leads, Body 4.1x4.1mm, Pitch 0.65mm, Thermal Pad 2.15x2.15mm, IPC High Density)
footprint LT-UF-16_M (QFN, 16-Leads, Body 4.1x4.1mm, Pitch 0.65mm, Thermal Pad 2.15x2.15mm, IPC Low Density)
pins: 1 BAT (power) "Battery Charger Output Terminal. Connect a 10uF ceramic chip capacitor between BAT and PGND to keep the ripple voltage small.", 2 SENSE "Internal Sense Resistor. Connect to external inductor.", 3 PGND (power) "Power Ground", 4 GNDSENS (in) "Ground Sense. Connect this pin to the negative battery terminal. GNDSENS provides a Kelvin connection for PGND and must be connected to PGND schematically.", 5 SW "Switch Node Connection. This pin connects to the drains of the internal main and synchronous power MOSFET switches. Connect to external inductor.", 6 ~{EN} (in) "Enable Input Pin. Pulling the E\N\ pin high places the LTC4001/LTC4001-1 into a low power state where the BAT drain current drops to less than 3uA and the supply current is reduced to less than 50uA. For normal operation, (See Datasheet)", 7 ~{CHRG} (hiz) "Open-Drain Charge Status Output. When the battery is being charged, C\H\R\G\ is pulled low by an internal N-channel MOSFET. When the charge current drops below the IDET threshold (set by the RIDET programming resistor) for (See Datasheet)", 8 PVIN (power) "Positive Supply Voltage Input. This pin connects to the power devices inside the chip. VIN ranges from 4V to 5.5V for normal operation. Operation down to the undervoltage lockout threshold is allowed with current limited (See Datasheet)", 9 VINSENSE (in) "Positive Supply Sense Input. This pin connects to the inputs of all input comparators (UVL, VIN to VBAT). It also supplies power to the controller portion of this chip. When the BATSENS pin rises to within 30mV of VINSENSE, (See Datasheet)", 10 FAULT (out) "Battery Fault. This pin is a logic high if a shorted battery is detected or if a temperature fault is detected. A temperature fault occurs with the temperature monitor circuit enabled and the thermistor temperature is either (See Datasheet)", 11 NTC (in) "Input to the NTC (Negative Temperature Coefficient) Thermistor Temperature Monitoring Circuit. Under normal operation, tie a thermistor from the NTC pin to the GNDSENS pin and a resistor of equal value from NTC to VIN. When (See Datasheet)", 12 PROG (in) "Charge Current Program. The RPROG resistor connects from this pin to GNDSENS, setting the current: RPROG =1.110k/IBAT(AMPS) where IBAT is the high rate battery charging current", 13 IDET (in) "Charge Rate Detection Threshold. Connecting a resistor, RIDET to GNDSENS programs the charge rate detection threshold. If RIDET = RPROG, C\H\R\G\ provides an IBAT/10 indication. For other thresholds see the Applications (See Datasheet)", 14 SS (in) "Soft-Start/Compensation. Provides soft-start function and compensation for the float voltage control loop and compensation for the charge current control loop. Tie a soft-start/compensation capacitor between this pin and (See Datasheet)", 15 TIMER (in) "Timer Capacitor. The timer period is set by placing a capacitor, CTIMER, to GNDSENS. Set CTIMER to:CTIMER = Time (Hrs) x 0.0733 (uF) where time is the desired charging time. Connect this pin to IDET to disable the timer. (See Datasheet)", 16 BATSENS (in) "Battery Sense Input. An internal resistor divider sets the final float voltage at this pin. The resistor divider is disconnected in sleep mode or when E\N\ = H to reduce the battery drain current. Connect this pin to the (See Datasheet)", 17 EP (power) "Ground. This pin must be soldered to the PCB ground (PGND) for electrical contact and rated thermal performance."